# EAGLE library part FH26W-39S-0.3SHW (library thanics-connector)
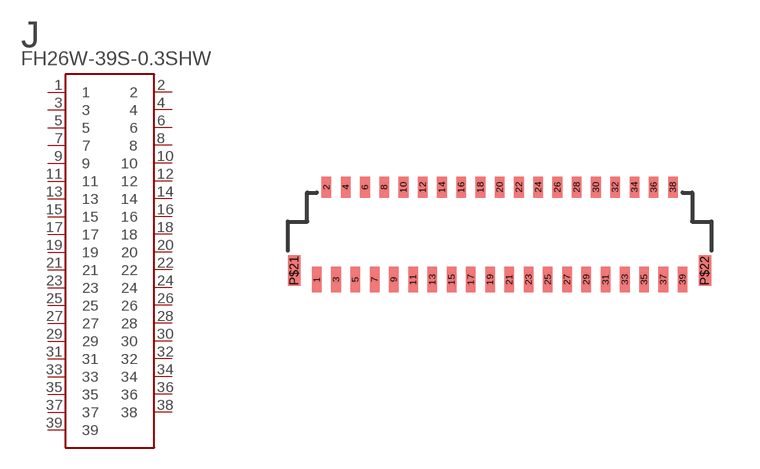
[diagram p4: symbol with the pads of FH26W-39S-0.3SHW; footprint FH26W-39S-0.3SHW]

Designator prefix J

## FH26W-39S-0.3SHW  [FH26W-39S-0.3SHW]
1  1
2  2
3  3
4  4
5  5
6  6
7  7
8  8
9  9
10  10
11  11
12  12
13  13
14  14
15  15
16  16
17  17
18  18
19  19
20  20
21  21
22  22
23  23
24  24
25  25
26  26
27  27
28  28
29  29
30  30
31  31
32  32
33  33
34  34
35  35
36  36
37  37
38  38
39  39

## Footprint FH26W-39S-0.3SHW (pad centres in mm)
smd 0.3 x 0.8: 1 -5.7,0; 3 -5.1,0; 5 -4.5,0; 7 -3.9,0; 9 -3.3,0; 11 -2.7,0; 13 -2.1,0; 15 -1.5,0; 17 -0.9,0; 19 -0.3,0; 21 0.3,0; 23 0.9,0; 25 1.5,0; 27 2.1,0; 29 2.7,0; 31 3.3,0; 33 3.9,0; 35 4.5,0; 37 5.1,0; 39 5.7,0
smd 0.3 x 0.65: 2 -5.4,2.875; 4 -4.8,2.875; 6 -4.2,2.875; 8 -3.6,2.875; 10 -3,2.875; 12 -2.4,2.875; 14 -1.8,2.875; 16 -1.2,2.875; 18 -0.6,2.875; 20 0,2.875; 22 0.6,2.875; 24 1.2,2.875; 26 1.8,2.875; 28 2.4,2.875; 30 3,2.875; 32 3.6,2.875; 34 4.2,2.875; 36 4.8,2.875; 38 5.4,2.875
smd 0.4 x 0.95: P$21 -6.4,0.275; P$22 6.4,0.275